# Altium schematic symbol library Kapasitor Kart v1.0.SchLib: 2 symbols
Pins are listed as number, name and electrical type; pins without a type are passive.

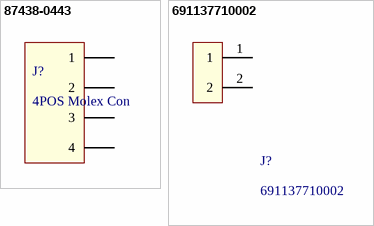
[diagram p0: symbols 87438-0443 to 691137710002]

## 87438-0443
designator J?, comment 4POS Molex Con
4 CKT 1.5mm HDR. Rt.-Angle SMT; Mfr No: 87438-0443; ComponentLink1Description: Mouser Link; ComponentLink1URL: https://www.mouser.com.tr/ProductDetail/Molex/87438-0443?qs=IOh0O5QtZ911kd24EQ6lAA==; Mouser No: 538-87438-0443; ComponentLink2Description: Digikey Link; ComponentLink2URL: https://www.digikey.com/en/products/detail/molex/0874380443/699148; Digikey Link: https://www.digikey.com/en/products/detail/molex/0874380443/699148
footprint 87438-0443
pins: 1, 2, 3, 4

## 691137710002
designator J?
2 Position Wire to Board Terminal Block Horizontal with Board 0.197" (5.00mm) Through Hole; ComponentLink1Description: Digikey Link; ComponentLink1URL: https://www.digikey.com/en/products/detail/w%C3%BCrth-elektronik/691137710002/6644051; Mfr No: 691137710002; Digikey No: 732-10955-ND; Digikey Link: https://www.digikey.com/en/products/detail/w%C3%BCrth-elektronik/691137710002/6644051
footprint 691137710002 (Horizontal Cable Entry with Pressure Clamp, pitch 5mm, 02p)
pins: 1, 2